# Altium schematic symbol library BIPOLAR-NPN-BCE.SchLib: 1 symbol
Pins are listed as number, name and electrical type; pins without a type are passive.

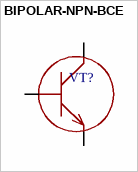
[diagram p0: symbol BIPOLAR-NPN-BCE]

## BIPOLAR-NPN-BCE
designator VT?
pins: 1 B, 2 C, 3 E